# Altium footprint library YS_STM32F407_MC.PcbLib: 52 footprints (part 3 of 4)
Each footprint in its own frame and in the unit in brackets; x right, y up, seen from the top. Pads: shape width x height; smd on the part's side, far side on the other; paste and mask are expansions set on the pad; w line width, h text height; cw(c..) or ccw(c..) is an arc to the next point about the centre after c.
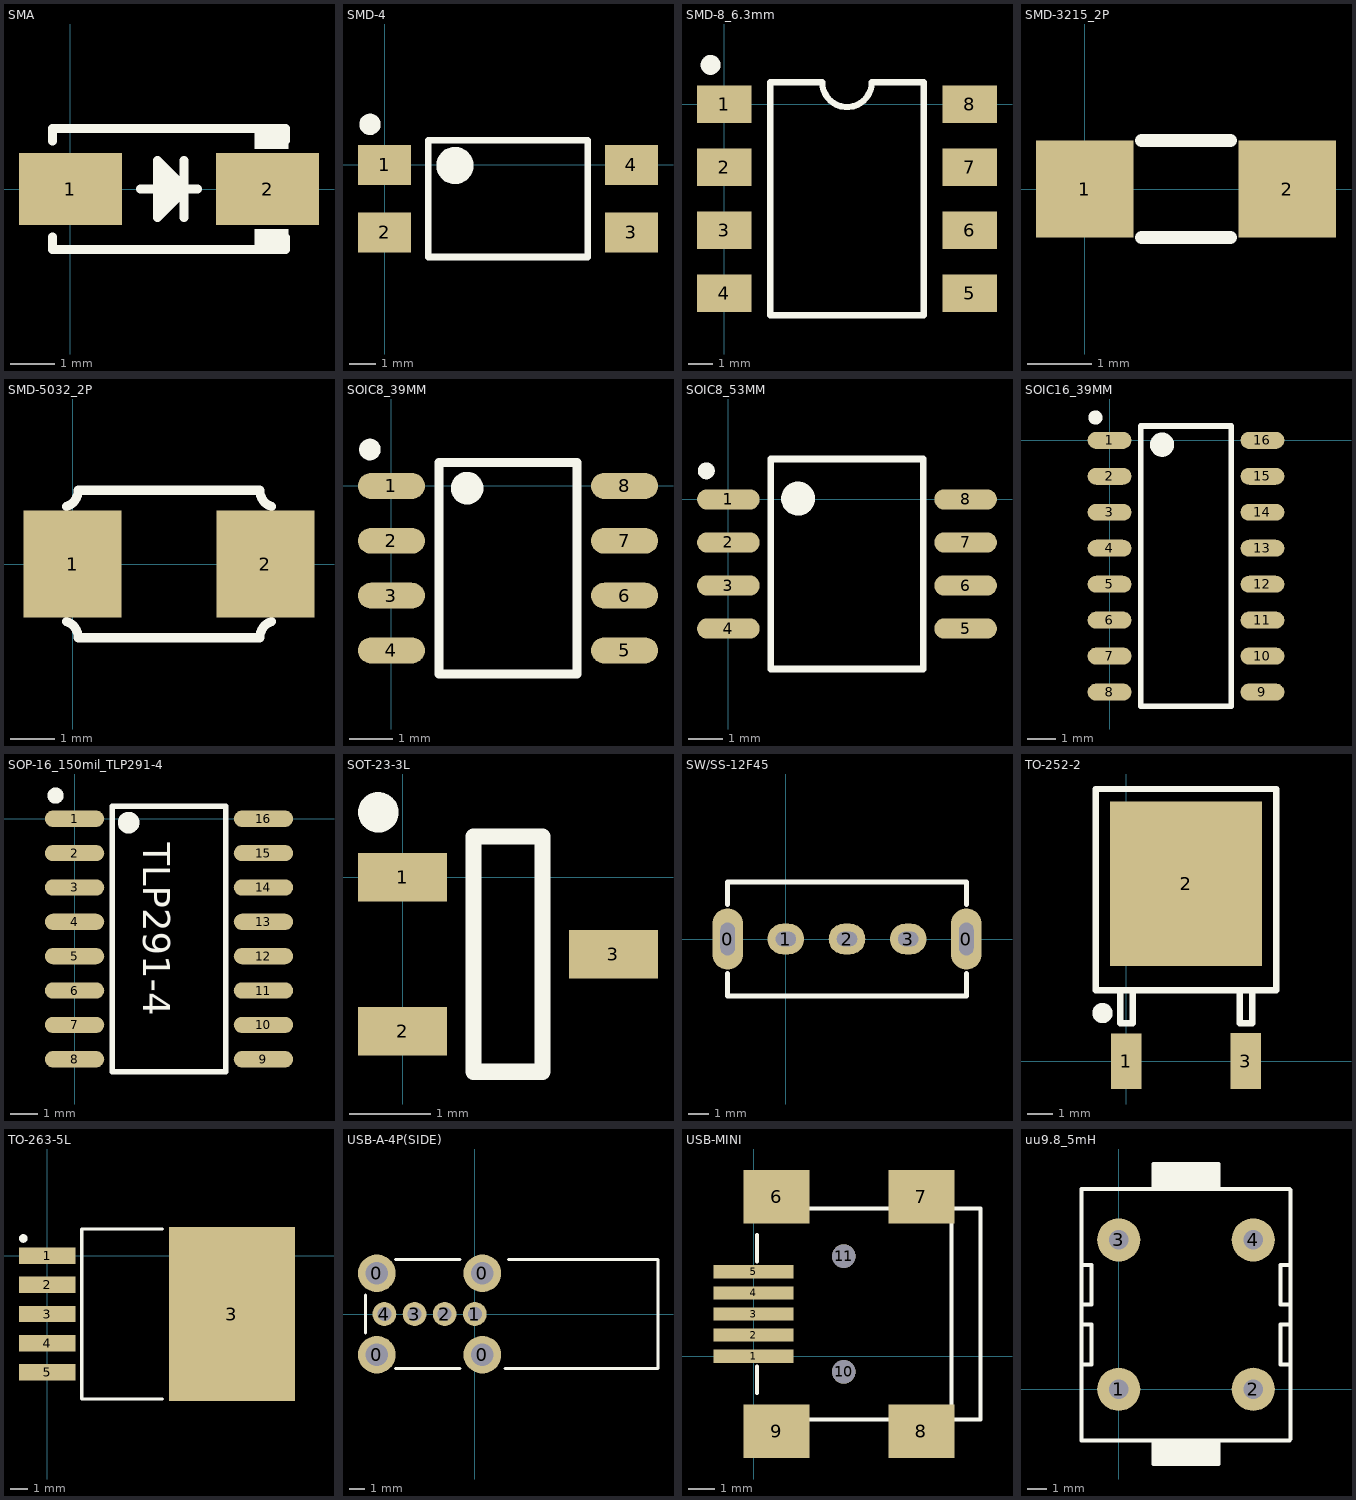
[diagram p2: the footprints below, top view; thin cyan lines are the x and y axes]

## SMA [mm]
pads (2):
  rect 2.3x1.6 smd: 1(0,0) 2(4.4,0)
Top Overlay:
  rectangle: 4.105,0.889 4.867,1.35
  rectangle: 4.105,-1.35 4.867,-0.889
  region: 1.946,0.635 1.946,-0.635 2.581,0
  lines w0.2: -0.4,-1.076 -0.4,-1.35 4.8,-1.35 4.8,-1.083 ; -0.4,1.076 -0.4,1.35 4.8,1.35 4.8,1.083 ; 1.565,0 2.835,0 ; 2.54,-0.635 2.54,0.635 ; 1.946,-0.635 2.581,0 1.946,0.635 1.946,-0.635

## SMD-4 [mm]
pads (4):
  rect 2x1.5 smd: 1(0,0) 2(0,-2.54) 3(9.3,-2.54) 4(9.3,0)
Top Overlay:
  circle w0.7: c2.65,-0.02 r0.35
  circle w0.4: c-0.55,1.53 r0.2
  lines w0.254: 1.65,-3.47 7.65,-3.47 7.65,0.93 1.65,0.93 1.65,-3.47

## SMD-8_6.3mm [mm]
pads (8):
  rect 2.2x1.5 smd: 1(0,0) 2(0,-2.54) 3(0,-5.08) 4(0,-7.62) 5(9.9,-7.62) 6(9.9,-5.08) 7(9.9,-2.54) 8(9.9,0)
Top Overlay:
  circle w0.4: c-0.55,1.59 r0.2
  lines w0.254: 1.85,-8.51 8.05,-8.51 8.05,0.89 5.95,0.89 cw(c4.95,0.89) 3.95,0.89 1.85,0.89 1.85,-8.51

## SMD-3215_2P [mil]
pads (2):
  rect 60x60 smd: 1(0,0) 2(125,0)
Top Overlay:
  lines w8: 35,-30 90,-30 ; 35,30 90,30

## SMD-5032_2P [mm]
pads (2):
  rect 2.2x2.4 smd: 1(0,0) 2(4.318,0)
Top Overlay:
  lines w0.203: -0.134,-1.29 cw(c-0.254,-1.651) 0.127,-1.651 4.191,-1.651 cw(c4.572,-1.651) 4.452,-1.29 ; -0.134,1.29 ccw(c-0.254,1.651) 0.127,1.651 4.191,1.651 ccw(c4.572,1.651) 4.452,1.29

## SOIC8_39MM [mm]
pads (8):
  oval 1.55x0.6 smd: 1(0,0) 2(0,-1.27) 3(0,-2.54) 4(0,-3.81) 5(5.4,-3.81) 6(5.4,-2.54) 7(5.4,-1.27) 8(5.4,0)
Top Overlay:
  circle w0.5: c1.753,-0.051 r0.127
  circle w0.25: c-0.5,0.845 r0.125
  lines w0.2: 1.1,-4.355 4.3,-4.355 4.3,0.545 1.1,0.545 1.1,-4.355

## SOIC8_53MM [mm]
pads (8):
  oval 1.85x0.6 smd: 1(0,0) 2(0,-1.27) 3(0,-2.54) 4(0,-3.81) 5(7,-3.81) 6(7,-2.54) 7(7,-1.27) 8(7,0)
Top Overlay:
  circle w0.5: c2.057,0.025 r0.25
  circle w0.25: c-0.65,0.845 r0.125
  lines w0.2: 1.25,-5.005 5.75,-5.005 5.75,1.195 1.25,1.195 1.25,-5.005

## SOIC16_39MM [mm]
pads (16):
  oval 1.55x0.6 smd: 1(0,0) 2(0,-1.27) 3(0,-2.54) 4(0,-3.81) 5(0,-5.08) 6(0,-6.35) 7(0,-7.62) 8(0,-8.89) 9(5.4,-8.89) 10(5.4,-7.62) 11(5.4,-6.35) 12(5.4,-5.08) 13(5.4,-3.81) 14(5.4,-2.54) 15(5.4,-1.27) 16(5.4,0)
Top Overlay:
  circle w0.25: c-0.5,0.805 r0.125
  circle w0.5: c1.854,-0.152 r0.178
  lines w0.2: 1.1,-9.395 1.1,0.505 4.3,0.505 4.3,-9.395 1.1,-9.395

## SOP-16_150mil_TLP291-4 [mm]
pads (16):
  oval 2.2x0.6 smd: 1(0,0) 2(0,-1.27) 3(0,-2.54) 4(0,-3.81) 5(0,-5.08) 6(0,-6.35) 7(0,-7.62) 8(0,-8.89) 9(6.985,-8.89) 10(6.985,-7.62) 11(6.985,-6.35) 12(6.985,-5.08) 13(6.985,-3.81) 14(6.985,-2.54) 15(6.985,-1.27) 16(6.985,0)
Top Overlay:
  circle w0.3: c-0.7,0.855 r0.15
  circle w0.4: c2,-0.145 r0.2
  lines w0.2: 1.4,-9.345 5.588,-9.345 5.588,0.455 1.4,0.455 1.4,-9.345
  text "TLP291-4" at 2.54,-0.889 h1

## SOT-23-3L [mm]
pads (3):
  rect 1.1x0.6 smd: 1(0,0) 2(0,-1.9) 3(2.6,-0.95)
Top Overlay:
  circle w0.25: c-0.3,0.8 r0.125
  lines w0.2: 0.875,-2.4 0.875,0.5 1.725,0.5 1.725,-2.4 0.875,-2.4

## SW/SS-12F45 [mm]
pads (5):
  oval 1.5x3 hole 0.7 slot 1.6 at 90 deg: 0(-2.85,0) 0(8.85,0)
  oval 1.8x1.5 hole 0.7 slot 1 at 0 deg: 1(0,0) 2(3,0) 3(6,0)
Top Overlay:
  lines w0.254: -2.85,-1.7 -2.85,-2.8 8.85,-2.8 8.85,-1.7 ; -2.85,1.7 -2.85,2.8 8.85,2.8 8.85,1.7

## TO-252-2 [mm]
pads (3):
  rect 1.2x2.2 smd: 1(0,0) 3(4.723,0.004)
  rect 6x6.5 smd: 2(2.361,7)
Top Overlay:
  circle w0.4: c-0.939,1.9 r0.2
  lines w0.254: -0.239,2.8 -0.239,1.5 0.261,1.5 0.261,2.8 ; 4.484,2.804 4.484,1.504 4.984,1.504 4.984,2.804 ; -1.212,2.8 5.934,2.8 5.934,10.75 -1.212,10.75 -1.212,2.8

## TO-263-5L [mm]
pads (6):
  rect 3.3x0.95 smd: 1(0,0) 2(0,-1.7) 3(0,-3.4) 4(0,-5.1) 5(0,-6.8)
  rect 7.35x10.15 smd: 3(10.75,-3.4)
Top Overlay:
  circle w0.25: c-1.4,1 r0.125
  lines w0.2: 6.7,-8.35 2,-8.35 2,1.55 6.7,1.55

## USB-A-4P(SIDE) [mm]
pads (8):
  round 2.5 hole 1.5: 0(-6.5,-2.7) 0(-6.5,2.7) 0(0.5,-2.7) 0(0.5,2.7)
  round 1.575 hole 0.92: 1(0,0) 2(-2,0) 3(-4,0) 4(-6,0)
Top Overlay:
  lines w0.2: -7.25,-1.25 -7.25,1.25 ; -5.25,-3.6 -1,-3.6 ; -5.25,3.6 -1,3.6 ; 2,-3.6 12.15,-3.6 12.15,3.6 2.25,3.6

## USB-MINI [mm]
pads (11):
  rect 3.048x0.508 smd: 1(0,0) 2(0,0.8) 3(0,1.6) 4(0,2.4) 5(0,3.2)
  rect 2.5x2.032 smd: 6(0.879,6.05) 7(6.379,6.05) 8(6.379,-2.85) 9(0.879,-2.85)
  round 0.9 hole 0.9 unplated: 10(3.429,-0.6) 11(3.429,3.8)
Top Overlay:
  lines w0.152: 0.129,-1.4 0.129,-0.4 ; 0.129,3.6 0.129,4.6 ; 1.929,-2.4 5.329,-2.4 ; 1.929,5.6 5.329,5.6 ; 7.429,-2.4 8.629,-2.4 8.629,5.6 7.429,5.6 ; 7.529,-2.4 7.529,5.6

## uu9.8_5mH [mm]
pads (4):
  round 2.2 hole 1: 1(0,0) 2(6.858,0) 3(0,7.62) 4(6.858,7.62)
Top Overlay:
  rectangle: 1.778,10.287 5.08,11.493
  rectangle: 1.778,-3.81 5.08,-2.603
  lines w0.203: -1.905,1.27 -1.397,1.27 -1.397,3.302 -1.905,3.302 ; -1.905,4.318 -1.397,4.318 -1.397,6.35 -1.905,6.35 ; 1.778,-2.603 1.778,-3.81 ; 1.778,10.287 1.778,11.493 5.08,11.493 ; 3.429,-3.81 1.778,-3.81 ; 3.429,11.493 5.08,11.493 ; 5.08,-2.603 5.08,-3.81 1.778,-3.81 ; 5.08,10.287 5.08,11.493 ; 8.763,1.27 8.255,1.27 8.255,3.302 8.763,3.302 ; 8.763,4.318 8.255,4.318 8.255,6.35 8.763,6.35 ; -1.905,-2.603 -1.905,10.223 8.7,10.223 8.763,10.16 8.763,0 8.763,-2.54 8.7,-2.603 8.064,-2.603 -1.905,-2.603